# Altium footprint library SMA_大偏脚_细针.PcbLib: 1 footprints
Each footprint in its own frame and in the unit in brackets; x right, y up, seen from the top. Pads: shape width x height; smd on the part's side, far side on the other; paste and mask are expansions set on the pad; w line width, h text height; cw(c..) or ccw(c..) is an arc to the next point about the centre after c.
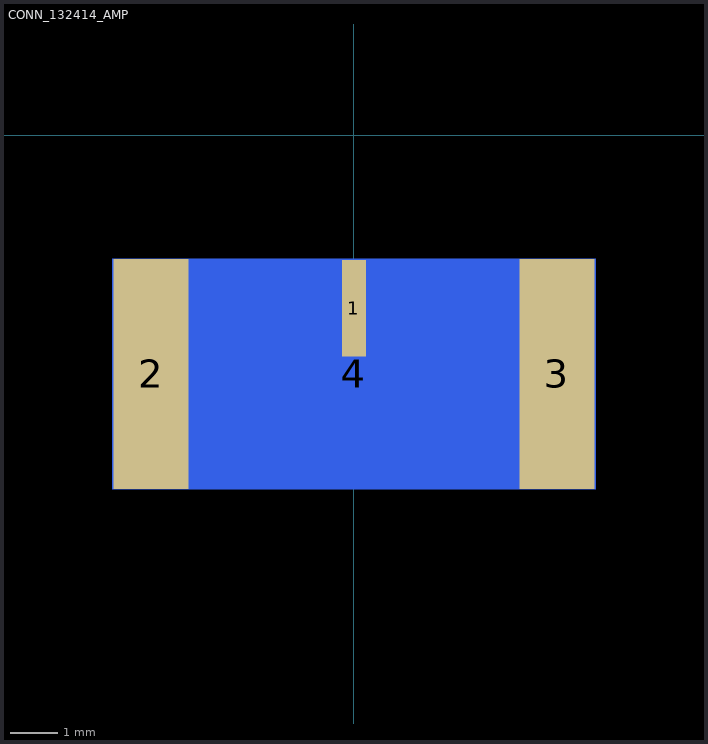
[diagram p0: the footprint, top view; thin cyan lines are the x and y axes]

## CONN_132414_AMP [mil]
pads (4):
  rect 20x81 smd paste+0 mask+0: 1(0,-145)
  rect 63x193 smd: 2(-170,-200) 3(170,-200)
  rect 405x193 smd far side: 4(0,-200)
3D body "142-0701-851--3DModel-STEP-231308.STEP": height 161.91, standoff -150.09, extent -187.5,-292 187.5,270